# Altium footprint library 5530122F.PcbLib: 1 footprints
Each footprint in its own frame and in the unit in brackets; x right, y up, seen from the top. Pads: shape width x height; smd on the part's side, far side on the other; paste and mask are expansions set on the pad; w line width, h text height; cw(c..) or ccw(c..) is an arc to the next point about the centre after c.
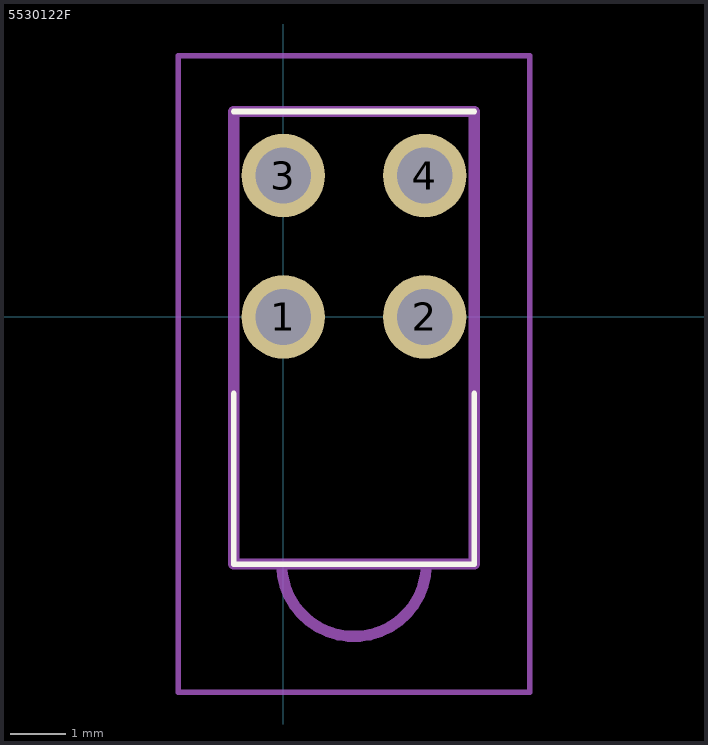
[diagram p0: the footprint, top view; thin cyan lines are the x and y axes]

## 5530122F [mm]
pads (4):
  round 1.5 hole 1: 1(0,0) 2(2.54,0) 3(0,2.54) 4(2.54,2.54)
Top Overlay:
  lines w0.1: -0.89,-1.375 -0.89,-4.375 -0.89,-4.44 3.43,-4.44 3.43,-1.375 ; -0.89,3.69 3.43,3.69
Mechanical 15:
  lines w0.2: -0.03,-4.44 2.57,-4.44 cw(c1.27,-4.44) -0.03,-4.44 ; -0.03,-4.44 -0.03,-4.44 ; -0.89,-4.44 3.43,-4.44 3.43,3.69 -0.89,3.69 -0.89,-4.44
Mechanical 20:
  lines w0.1: -1.89,-6.74 4.43,-6.74 4.43,4.69 -1.89,4.69 -1.89,-6.74